# EAGLE library part LCD_CO216CIZ_LED (library JLB6_Display)
LCD COG NewHavenDisplay NHD-C0216CIZ backlight Led et I²C
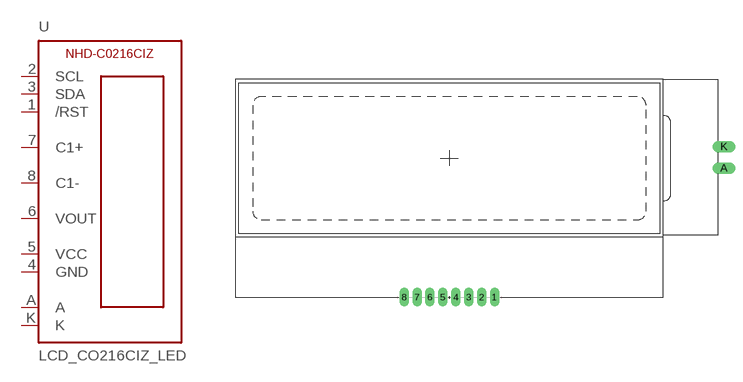
[diagram p2: symbol with the pads of LCD-C0216CIZ; footprint LCD-C0216CIZ]

Designator prefix U

## LCD_CO216CIZ_LED  [LCD-C0216CIZ]
1  /RST
2  SCL  in
3  SDA
4  GND  pwr
5  VCC  pwr
6  VOUT
7  C1+
8  C1-
A  A
K  K

## Footprint LCD-C0216CIZ (pad centres in mm)
drill 0.6 long: 1 5.25,0; 2 3.75,0; 3 2.25,0; 4 0.75,0; 5 -0.75,0; 6 -2.25,0; 7 -3.75,0; 8 -5.25,0
drill 0.8 long: A 31.9,15; K 31.9,17.5